# Altium schematic symbol library sram-component.SchLib: 1 symbol
Pins are listed as number, name and electrical type; pins without a type are passive.

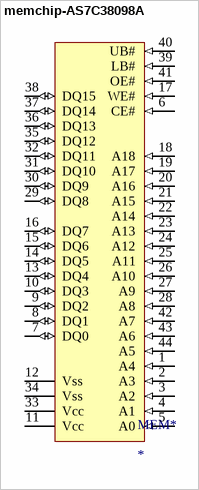
[diagram p0: symbol memchip-AS7C38098A]

## memchip-AS7C38098A
designator MEM*
footprint AS7C38098A-10TIN (TSOPII, 44-Leads, Body 18,41x10,16mm, Pitch 0,80mm, IPC Medium Density)
pins: 1 A4 (in), 2 A3 (in), 3 A2 (in), 4 A1 (in), 5 A0 (in), 6 CE# (in), 7 DQ0 (io), 8 DQ1 (io), 9 DQ2 (io), 10 DQ3 (io), 11 Vcc (power), 12 Vss (power), 13 DQ4 (io), 14 DQ5 (io), 15 DQ6 (io), 16 DQ7 (io), 17 WE# (in), 18 A18 (in), 19 A17 (in), 20 A16 (in), 21 A15 (in), 22 A14 (in), 23 A13 (in), 24 A12 (in), 25 A11 (in), 26 A10 (in), 27 A9 (in), 28 A8 (in), 29 DQ8 (io), 30 DQ9 (io), 31 DQ10 (io), 32 DQ11 (io), 33 Vcc (power), 34 Vss (power), 35 DQ12 (io), 36 DQ13 (io), 37 DQ14 (io), 38 DQ15 (io), 39 LB# (in), 40 UB# (in), 41 OE# (in), 42 A7 (in), 43 A6 (in), 44 A5 (in)